# Altium schematic symbol library Mach_ha_ap.SchLib: 1 symbol
Pins are listed as number, name and electrical type; pins without a type are passive.

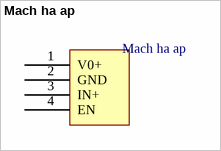
[diagram p0: symbol Mach ha ap]

## Mach ha ap
designator Mach ha ap
footprint Mach ha ap
pins: 1 V0+, 2 GND, 3 IN+, 4 EN